# EAGLE library part IDEATTACH (library 1dah)
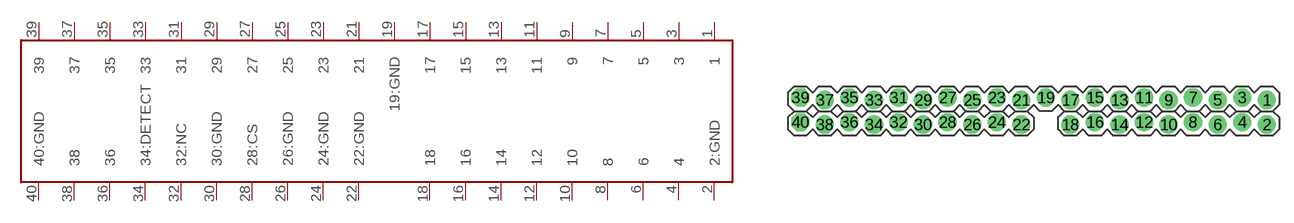
[diagram p17: symbol with the pads of IDEATTACH; footprint IDEATTACH]

Designator prefix -

## IDEATTACH  [IDEATTACH]
1  1
2  2:GND
3  3
4  4
5  5
6  6
7  7
8  8
9  9
10  10
11  11
12  12
13  13
14  14
15  15
16  16
17  17
18  18
19  19:GND
21  21
22  22:GND
23  23
24  24:GND
25  25
26  26:GND
27  27
28  28:CS
29  29
30  30:GND
31  31
32  32:NC
33  33
34  34:DETECT
35  35
36  36
37  37
38  38
39  39
40  40:GND

## Footprint IDEATTACH (pad centres in mm)
drill 1.016 pad 1.88: 1 48.26,-0.127; 2 48.26,-2.667; 3 45.72,0.127; 4 45.72,-2.413; 5 43.18,-0.127; 6 43.18,-2.667; 7 40.64,0.127; 8 40.64,-2.413; 9 38.1,-0.127; 10 38.1,-2.667; 11 35.56,0.127; 12 35.56,-2.413; 13 33.02,-0.127; 14 33.02,-2.667; 15 30.48,0.127; 16 30.48,-2.413; 17 27.94,-0.127; 18 27.94,-2.667; 19 25.4,0.127; 21 22.86,-0.127; 22 22.86,-2.667; 23 20.32,0.127; 24 20.32,-2.413; 25 17.78,-0.127; 26 17.78,-2.667; 27 15.24,0.127; 28 15.24,-2.413; 29 12.7,-0.127; 30 12.7,-2.667; 31 10.16,0.127; 32 10.16,-2.413; 33 7.62,-0.127; 34 7.62,-2.667; 35 5.08,0.127; 36 5.08,-2.413; 37 2.54,-0.127; 38 2.54,-2.667
drill 1.016 pad 1.88 octagon: 39 0,0.127; 40 0,-2.413